# EAGLE library part ADV717* (library zz-m-pad-2.1)
Analog's ADV7170 / ADV7171 Digital PAL/NTSC Video Encoder with 10-Bit SSAF and Advanced Power Management Description: The ADV7170/ADV7171 are integrated digital video encoders that convert digital CCIR-601 4:2:2 8- or 16-bit component video data into a standard analog baseband television signal compatible with worldwide standards. The on-board SSAF (super sub-alias filter) with extended luminance frequency response and sharp stop band attenuation enables studio-quality video playback on modern TVs, giving optimal horizontal line resolution. An advanced power management circuit enables optimal control of power consumption in both normal operating modes and power-down or sleep modes. The ADV7170/ADV7171 support both PAL and NTSC square pixel operation. The parts also incorporate WSS and CGMS-A data control generation. The output video frames are synchronized with the incoming data timing reference codes. Optionally, the encoder accepts and can generate HSYNC, VSYNC, and FIELD timing signals. These timing signals can be adjusted to change pulse width and position while the part is in the master mode. The encoder requires a single, two-times pixel rate (27 MHz) clock for standard operation. Alternatively, the encoder requires a 24.5454 MHz clock for NTSC or 29.5 MHz clock for PAL square pixel mode operation. All internal timing is generated on-chip. A separate teletext port enables the user to directly input teletext data during the vertical blanking interval. The ADV7170/ADV7171 modes are set up over a 2-wire, serial bidirectional port (I2C-compatible) with two slave addresses. Functionally, the ADV7170 and ADV7171 are the same with the exception that the ADV7170 can output the Macrovision anticopy algorithm. The ADV7170/ADV7171 are packaged in a 44-lead MQFP package and a 44-lead TQFP package. Features: ITU-R1 BT601/656 YCrCb to PAL/NTSC video encoder High quality 10-bit video DACs SSAF (super sub-alias filter) Advanced power management features CGMS (copy generation management system) WSS (wide screen signalling) Simultaneous Y, U, V, C output format NTSC M, PAL M/N2, PAL B/D/G/H/I, PAL60 Single 27 MHz clock required (×2 oversampling) 80 dB video SNR 32-bit direct digital synthesizer for color subcarrier Multistandard video output support: - Composite (CVBS) - Components S-Video (Y/C), YUV, and RGB - EuroSCART output (RGB + CVBS/LUMA) - Component YUV + CHROMA Video input data port supports: - CCIR-656 4:2:2 8-bit parallel input format - 4:2:2 16-bit parallel input format Programmable simultaneous composite and S-Video or RGB (SCART)/YUV video outputs Programmable luma filters (low-pass [PAL/NTSC]) notch, extended (SSAF, CIF, and QCIF) Programmable chroma filters (low-pass [0.65 MHz, 1.0 MHz, 1.2 MHz and 2.0 MHz], CIF and QCIF) Programmable VBI (vertical blanking interval) Programmable subcarrier frequency and phase Programmable LUMA delay Individual on/off control of each DAC CCIR and square pixel operation Integrated subcarrier locking to external video source Color signal control/burst signal control Interlaced/noninterlaced operation Complete on-chip video timing generator Programmable multimode master/slave operation Macrovision® AntiTaping Rev. 7.1 (ADV7170 only)3 Closed captioning support Teletext insertion port (PAL-WST) On-board color bar generation On-board voltage reference 2-wire serial MPU interface (I2C®-compatible and Fast I2C) Single supply 5 V or 3.3 V operation Small 44-lead MQFP/TQFP packages Industrial temperature grade = ?40°C to +85°C4 Applications: High performance DVD playback systems portable video equipment including digital still cameras and laptop PCs video games PC video/multimedia digital satellite/cable systems (set-top boxes/IRD) Analog's ADV7175A / ADV7176A* High Quality, 10-Bit, Digital CCIR-601 to PAL/NTSC Video Encoder Description: The ADV7175A/ADV7176A is an integrated digital video encoder that converts Digital CCIR-601 4:2:2 8 or 16-bit component video data into a standard analog baseband television signal compatible with worldwide standards. The 4:2:2 YUV video data is interpolated to two times the pixel rate. The colordifference components (UV) are quadrature modulated using a subcarrier frequency generated by an on-chip 32-bit digital synthesizer (also running at two times the pixel rate). The two times pixel rate sampling allows for better signal-to-noise-ratio. A 32-bit DDS with a 10-bit look-up table produces a superior subcarrier in terms of both frequency and phase. In addition to the composite output signal, there is the facility to output SVideo (Y/C) video, YUV or RGB video. The Y/C, YUV or RGB format is simultaneously available at the analog outputs with the composite video signal. Each analog output is capable of driving the full video-level (35 mA) signal into an unbuffered, doubly terminated 75 ? load. With external buffering, the user has the additional option to scale back the DAC output current to 5 mA min, thereby significantly reducing the power dissipation of the device. The ADV7175A/ADV7176A also supports both PAL and NTSC square pixel operation. The output video frames are synchronized with the incoming data timing reference codes. Optionally the encoder accepts (and can generate) HSYNC, VSYNC and FIELD timing signals. These timing signals can be adjusted to change pulsewidth and position while the part is in the master mode. The encoder requires a single two times pixel rate (27 MHz) clock for standard operation. Alternatively, the encoder requires a 24.5454 MHz clock for NTSC or 29.5 MHz clock for PAL square pixel mode operation. All internal timing is generated on-chip. A separate teletext port enables the user to directly input teletext data during the vertical blanking interval. The ADV7175A/ADV7176A modes are set up over a two-wire serial bidirectional port (I2C Compatible) with two slave addresses. Functionally the ADV7175A and ADV7176A are the same with the exception that the ADV7175A can output the Macrovision anticopy algorithm. The ADV7175A/ADV7176A is packaged in a 44-lead thermally enhanced MQFP package. Features: ITU-R BT601/656 YCrCb to PAL/NTSC Video Encoder High Quality 10-Bit Video DACs Integral Nonlinearity <1 LSB at 10 Bits NTSC-M, PAL-M/N, PAL-B/D/G/H/I Single 27 MHz Clock Required ( 2 Oversampling) 80 dB Video SNR 32-Bit Direct Digital Synthesizer for Color Subcarrier Multistandard Video Output Support: - Composite (CVBS) - Component S-Video (Y/C) - Component YUV and RGB - EuroSCART Output (RGB + CVBS/LUMA) Video Input Data Port Supports: - CCIR-656 4:2:2 8-Bit Parallel Input Format - 4:2:2 16-Bit Parallel Input Format Full Video Output Drive or Low Signal Drive Capability 34.7 mA max into 37.5 (Doubly-Terminated 75R) 5 mA min with External Buffers Programmable Simultaneous Composite and S-Video Y/C or RGB (SCART)/YUV Video Outputs Programmable Luma Filters (Low-Pass/Notch/Extended) Programmable VBI (Vertical Blanking Interval) Programmable Subcarrier Frequency and Phase Programmable LUMA Delay Individual ON/OFF Control of Each DAC CCIR and Square Pixel Operation Integrated Subcarrier Locking to External Video Source Color Signal Control/Burst Signal Control Interlaced/Noninterlaced Operation Complete On-Chip Video Timing Generator Programmable Multimode Master/Slave Operation Macrovision Antitaping Rev 7.01 (ADV7175A Only)** Closed Captioning Support Teletext Insertion Port (PAL-WST) Onboard Color Bar Generation Onboard Voltage Reference 2-Wire Serial MPU Interface (I2C Compatible) Single Supply 5 V or 3 V Operation Small 44-Lead MQFP Thermally Enhanced Package Applications: MPEG-1 and MPEG-2 Video DVD, Digital Satellite/ Cable Systems (Set Top Boxes/IRDs) Digital TVs CD Video/Karaoke, Video Games PC Video/Multimedia Please send any comments to: messi@users.sourceforge.net
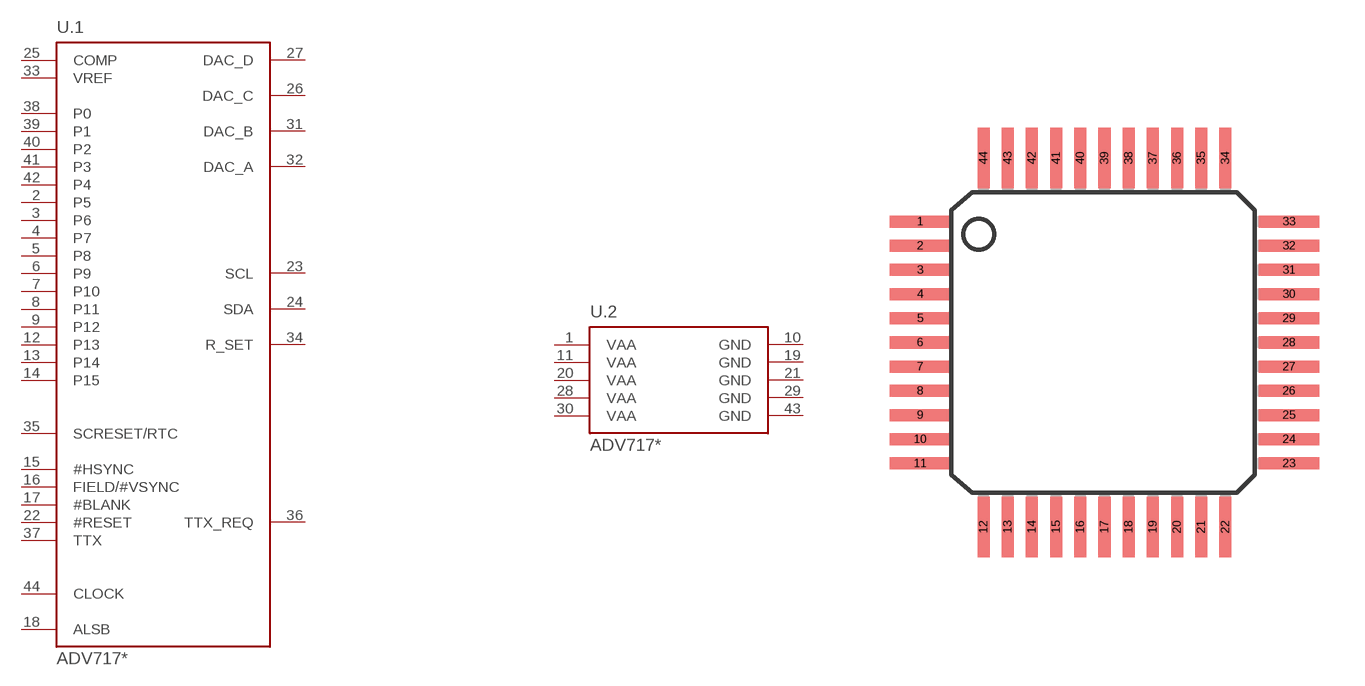
[diagram p148: symbol with the pads of MQFP44-2; footprint MQFP44-2]

Designator prefix U; gates .1=ADV7175_76 .2=ADV7175A_76A_PWR

## ADV717S-44-1  [MQFP44-2]
1  .2:VAA  pwr
2  .1:P5  in
3  .1:P6  in
4  .1:P7  in
5  .1:P8  in
6  .1:P9  in
7  .1:P10  in
8  .1:P11  in
9  .1:P12  in
10  .2:GND  pwr
11  .2:VAA  pwr
12  .1:P13  in
13  .1:P14  in
14  .1:P15  in
15  .1:#HSYNC
16  .1:FIELD/#VSYNC
17  .1:#BLANK
18  .1:ALSB  in
19  .2:GND  pwr
20  .2:VAA  pwr
21  .2:GND  pwr
22  .1:#RESET  in
23  .1:SCL  in
24  .1:SDA
25  .1:COMP  in
26  .1:DAC_C  out
27  .1:DAC_D  out
28  .2:VAA  pwr
29  .2:GND  pwr
30  .2:VAA  pwr
31  .1:DAC_B  out
32  .1:DAC_A  out
33  .1:VREF
34  .1:R_SET  in
35  .1:SCRESET/RTC  in
36  .1:TTX_REQ  out
37  .1:TTX  in
38  .1:P0  in
39  .1:P1  in
40  .1:P2  in
41  .1:P3  in
42  .1:P4  in
43  .2:GND  pwr
44  .1:CLOCK  in

## Footprint MQFP44-2 (pad centres in mm)
Metric Quad Flat Pack
smd 2 x 0.4: 1 -6.1,4; 2 -6.1,3.2; 3 -6.1,2.4; 4 -6.1,1.6; 5 -6.1,0.8; 6 -6.1,0; 7 -6.1,-0.8; 8 -6.1,-1.6; 9 -6.1,-2.4; 10 -6.1,-3.2; 11 -6.1,-4; 23 6.1,-4; 24 6.1,-3.2; 25 6.1,-2.4; 26 6.1,-1.6; 27 6.1,-0.8; 28 6.1,0; 29 6.1,0.8; 30 6.1,1.6; 31 6.1,2.4; 32 6.1,3.2; 33 6.1,4
smd 0.4 x 2: 12 -4,-6.1; 13 -3.2,-6.1; 14 -2.4,-6.1; 15 -1.6,-6.1; 16 -0.8,-6.1; 17 0,-6.1; 18 0.8,-6.1; 19 1.6,-6.1; 20 2.4,-6.1; 21 3.2,-6.1; 22 4,-6.1; 34 4,6.1; 35 3.2,6.1; 36 2.4,6.1; 37 1.6,6.1; 38 0.8,6.1; 39 0,6.1; 40 -0.8,6.1; 41 -1.6,6.1; 42 -2.4,6.1; 43 -3.2,6.1; 44 -4,6.1